# Altium footprint library SC-70-6.PcbLib: 1 footprints
Each footprint in its own frame and in the unit in brackets; x right, y up, seen from the top. Pads: shape width x height; smd on the part's side, far side on the other; paste and mask are expansions set on the pad; w line width, h text height; cw(c..) or ccw(c..) is an arc to the next point about the centre after c.
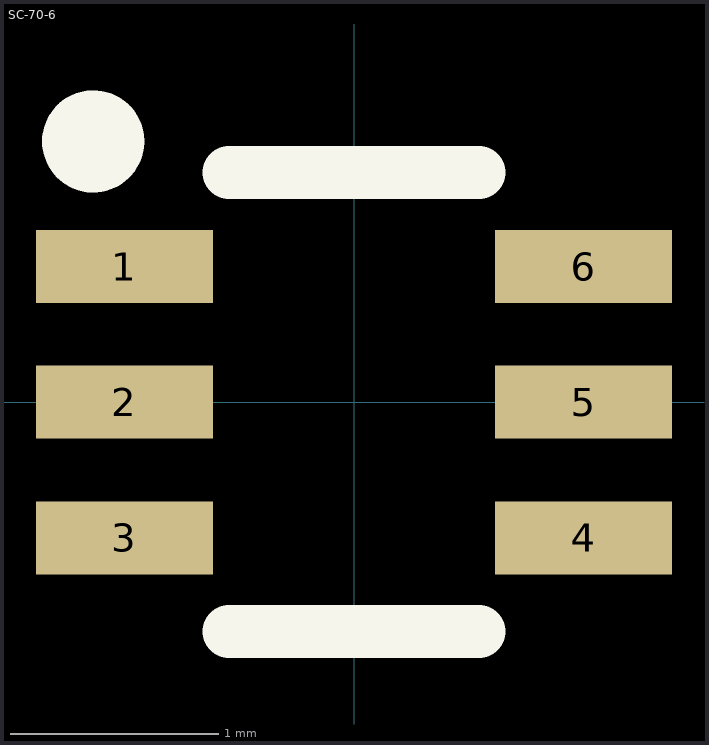
[diagram p0: the footprint, top view; thin cyan lines are the x and y axes]

## SC-70-6 [mm]
pads (6):
  rect 0.85x0.35 smd paste-0.05 mask+0.05: 1(-1.1,0.65) 2(-1.1,0) 3(-1.1,-0.65) 4(1.1,-0.65) 5(1.1,0) 6(1.1,0.65)
Top Overlay:
  circle w0.25: c-1.25,1.25 r0.12
  lines w0.254: -0.6,-1.1 0.6,-1.1 ; -0.6,1.1 0.6,1.1
3D body "SC70-6.step": height 1.1, standoff 0, extent -1.05,-1 1.05,1